# Altium schematic symbol library nfc_3911_schLib.SchLib: 3 symbols
Pins are listed as number, name and electrical type; pins without a type are passive.

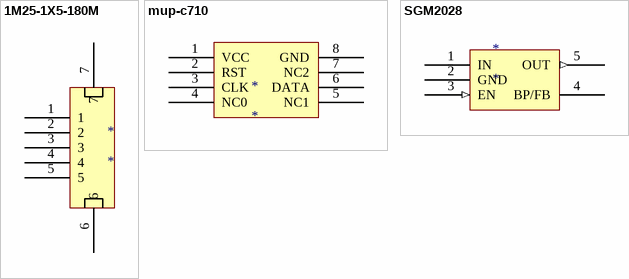
[diagram p0: symbols 1M25-1X5-180M to SGM2028]

## 1M25-1X5-180M
designator *
pins: 1, 2, 3, 4, 5, 6, 7

## mup-c710
designator *
pins: 1 VCC, 2 RST, 3 CLK, 4 NC0, 5 NC1, 6 DATA, 7 NC2, 8 GND

## SGM2028
designator *
pins: 1 IN (power), 2 GND (power), 3 EN (in), 4 BP/FB, 5 OUT (out)